# EAGLE library part ESP32-WROOM-DEVKIT-V1 (library _esp32)
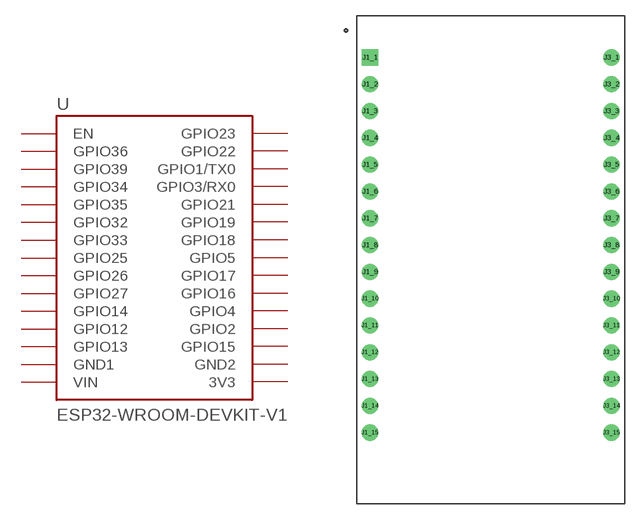
[diagram p1: symbol with the pads of ESP32-WROOM-DEVKIT-V1; footprint ESP32-WROOM-DEVKIT-V1]

Designator prefix -

## ESP32-WROOM-DEVKIT-V1  [ESP32-WROOM-DEVKIT-V1]
J1_1  EN  pwr
J1_2  GPIO36  pwr
J1_3  GPIO39  in
J1_4  GPIO34
J1_5  GPIO35
J1_6  GPIO32
J1_7  GPIO33
J1_8  GPIO25
J1_9  GPIO26
J1_10  GPIO27
J1_11  GPIO14
J1_12  GPIO12
J1_13  GPIO13
J1_14  GND1
J1_15  VIN
J3_1  GPIO23  pwr
J3_2  GPIO22
J3_3  GPIO1/TX0
J3_4  GPIO3/RX0
J3_5  GPIO21
J3_6  GPIO19
J3_7  GPIO18
J3_8  GPIO5
J3_9  GPIO17
J3_10  GPIO16
J3_11  GPIO4
J3_12  GPIO2
J3_13  GPIO15
J3_14  GND2
J3_15  3V3

## Footprint ESP32-WROOM-DEVKIT-V1 (pad centres in mm)
drill 1.02 square: J1_1 -11.43,27.43
drill 1.02: J1_2 -11.43,24.89; J1_3 -11.43,22.35; J1_4 -11.43,19.81; J1_5 -11.43,17.27; J1_6 -11.43,14.73; J1_7 -11.43,12.19; J1_8 -11.43,9.65; J1_9 -11.43,7.11; J1_10 -11.43,4.57; J1_11 -11.43,2.03; J1_12 -11.43,-0.51; J1_13 -11.43,-3.05; J1_14 -11.43,-5.59; J1_15 -11.43,-8.13; J3_1 11.43,27.43; J3_2 11.43,24.89; J3_3 11.43,22.35; J3_4 11.43,19.81; J3_5 11.43,17.27; J3_6 11.43,14.73; J3_7 11.43,12.19; J3_8 11.43,9.65; J3_9 11.43,7.11; J3_10 11.43,4.57; J3_11 11.43,2.03; J3_12 11.43,-0.51; J3_13 11.43,-3.05; J3_14 11.43,-5.59; J3_15 11.43,-8.13